# EAGLE library part ISO1541 (library Skoba)
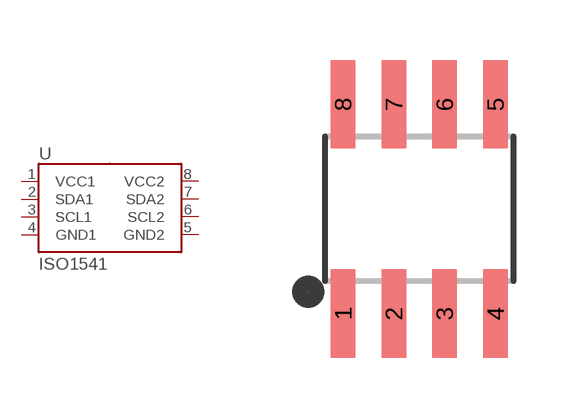
[diagram p4: symbol with the pads of SO08; footprint SO08]

Designator prefix U

## ISO1541  [SO08]
1  VCC1
2  SDA1
3  SCL1
4  GND1
5  GND2
6  SCL2
7  SDA2
8  VCC2

## Footprint SO08 (pad centres in mm)
Small Outline Package Fits JEDEC packages (narrow SOIC-8)
smd 0.61 x 2.21: 1 -1.905,-2.616; 2 -0.635,-2.616; 3 0.635,-2.616; 4 1.905,-2.616; 5 1.905,2.616; 6 0.635,2.616; 7 -0.635,2.616; 8 -1.905,2.616